# Altium footprint library RESC1005X40N.PcbLib: 1 footprints
Each footprint in its own frame and in the unit in brackets; x right, y up, seen from the top. Pads: shape width x height; smd on the part's side, far side on the other; paste and mask are expansions set on the pad; w line width, h text height; cw(c..) or ccw(c..) is an arc to the next point about the centre after c.
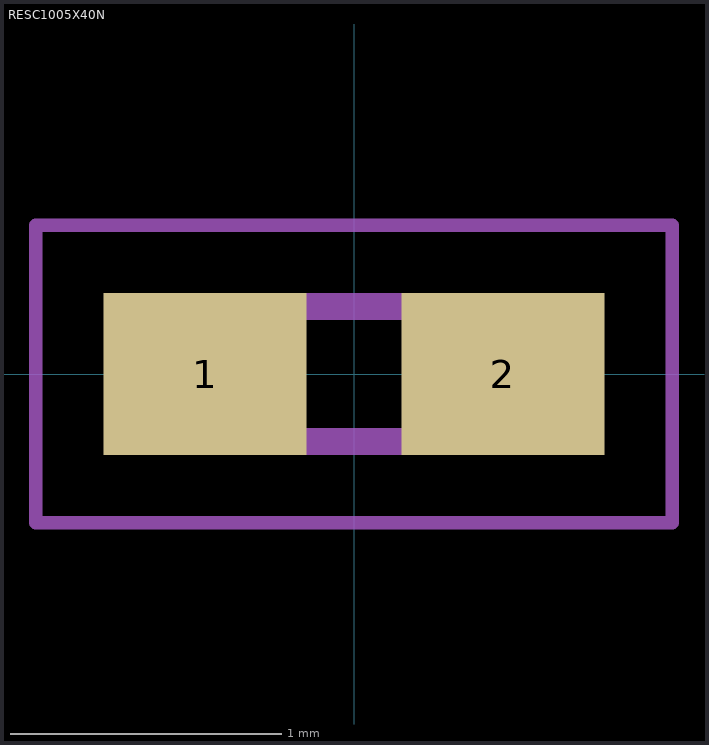
[diagram p0: the footprint, top view; thin cyan lines are the x and y axes]

## RESC1005X40N [mm]
pads (2):
  rect 0.75x0.6 smd: 1(-0.55,0) 2(0.55,0)
Mechanical 15:
  lines w0.1: -0.5,-0.25 0.5,-0.25 0.5,0.25 -0.5,0.25 -0.5,-0.25
Mechanical 20:
  lines w0.05: -1.175,-0.55 1.175,-0.55 1.175,0.55 -1.175,0.55 -1.175,-0.55
3D body "0402WGF1001TCE.stp": height 5.8, standoff -4.65, extent -10,-3.376 10,3.376